# Altium schematic symbol library GreenBox_SheetLib.SchLib: 28 symbols
Pins are listed as number, name and electrical type; pins without a type are passive.

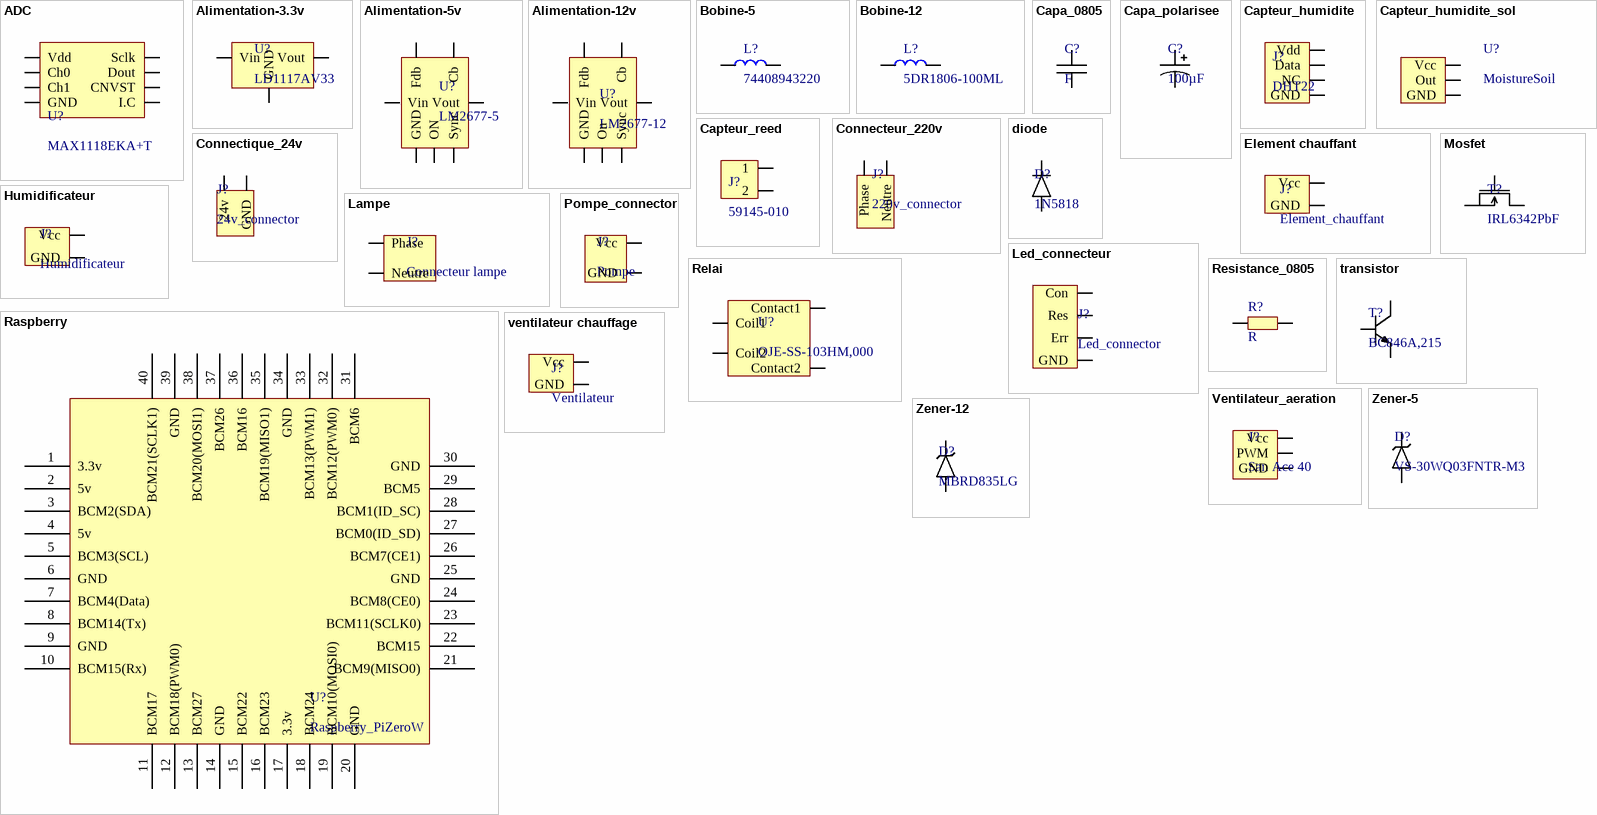
[diagram p0: symbols ADC to Zener-12]

## ADC
designator U?, comment MAX1118EKA+T
footprint SOT-23 (ADC)
pins: 1 Vdd, 2 Ch0, 3 Ch1, 4 GND, 5 I.C, 6 CNVST, 7 Dout, 8 Sclk

## Alimentation-3.3v
designator U?, comment LD1117AV33
footprint TO-220 + Dissipateur (3.3v)
pins: 1 Vin, 2 GND, 3 Vout

## Alimentation-5v
designator U?, comment LM2677-5
footprint TO-263 (Regulateur-5.5v)
pins: 1 Vout, 2 Vin, 3 Cb, 4 GND, 5 Sync, 6 Fdb, 7 ON

## Alimentation-12v
designator U?, comment LM2677-12
footprint TO-220-7 + dissipateur (Alimentation 12v + dissipateur)
pins: 1 Vout, 2 Vin, 3 Cb, 4 GND, 5 Sync, 6 Fdb, 7 On

## Bobine-5
designator L?, comment 74408943220
footprint 74408943220 (Bobine 22µH)
pins: 1, 2 1

## Bobine-12
designator L?, comment 5DR1806-100ML
footprint SDR1806-100ML (Bobine 12v)
pins: 1, 2 1

## Capa_0805
designator C?, comment F
footprint 0805
pins: 1, 2

## Capa_polarisee
designator C?, comment 100µF
footprint Capa_polarisee
pins: 1, 2

## Capteur_humidite
designator J?, comment DHT22
footprint Petit_bornier_4_voies
pins: 1 Vdd, 2 Data, 3 NC, 4 GND

## Capteur_humidite_sol
designator U?, comment MoistureSoil
Connecteur Capteur d'humidité du sol
footprint Petit_bornier_3_voies
pins: 1 Vcc, 2 Out, 3 GND

## Capteur_reed
designator J?, comment 59145-010
footprint Petit_bornier_2_voies
pins: 1, 2

## Connecteur_220v
designator J?, comment 220v_connector
footprint Gros Bornier 2 voies
pins: 1 Neutre, 2 Phase

## Connectique_24v
designator J?, comment 24v_connector
footprint Gros Bornier 2 voies
pins: 1 GND, 2 24v

## diode
designator D?, comment 1N5818
footprint DO-41 (Diode)
pins: 1 0, 2

## Element chauffant
designator J?, comment Element_chauffant
footprint Gros Bornier 2 voies
pins: 1 GND, 2 Vcc

## Humidificateur
designator J?
footprint Gros Bornier 2 voies
pins: 1 GND, 2 Vcc

## Lampe
designator J?, comment Connecteur lampe
footprint Gros Bornier 2 voies
pins: 1 Neutre, 2 Phase

## Led_connecteur
designator J?, comment Led_connector
footprint Petit_bornier_4_voies
pins: 1 Con, 2 Res, 3 Err, 4 GND

## Mosfet
designator T?, comment IRL6342PbF
footprint SO-8 (Mosfet)
pins: 1, 4 0, 5 2

## Pompe_connector
designator J?, comment Pompe
footprint Gros Bornier 2 voies
pins: 1 GND, 2 Vcc

## Raspberry
designator U?, comment Raspberry_PiZeroW
footprint Raspberry
pins: 1 3.3v, 2 5v, 3 BCM2(SDA), 4 5v, 5 BCM3(SCL), 6 GND, 7 BCM4(Data), 8 BCM14(Tx), 9 GND, 10 BCM15(Rx), 11 BCM17, 12 BCM18(PWM0), 13 BCM27, 14 GND, 15 BCM22, 16 BCM23, 17 3.3v, 18 BCM24, 19 BCM10(MOSI0), 20 GND, 21 BCM9(MISO0), 22 BCM15, 23 BCM11(SCLK0), 24 BCM8(CE0), 25 GND, 26 BCM7(CE1), 27 BCM0(ID_SD), 28 BCM1(ID_SC), 29 BCM5, 30 GND, 31 BCM6, 32 BCM12(PWM0), 33 BCM13(PWM1), 34 GND, 35 BCM19(MISO1), 36 BCM16, 37 BCM26, 38 BCM20(MOSI1), 39 GND, 40 BCM21(SCLK1)

## Relai
designator U?, comment OJE-SS-103HM,000
footprint Relai
pins: 1 Coil1, 2 Contact2, 3 Contact1, 4 Coil2

## Resistance_0805
designator R?, comment R
footprint 0805
pins: 1 0, 2 1

## transistor
designator T?, comment BC846A,215
footprint SOT-23 - duplicate
pins: 1 10, 2, 3 9

## ventilateur chauffage
designator J?, comment Ventilateur
footprint Petit_bornier_2_voies
pins: 1 Vcc, 2 GND

## Ventilateur_aeration
designator J?, comment San Ace 40
footprint Petit_bornier_3_voies
pins: 1 Vcc, 2 PWM, 3 GND

## Zener-5
designator D?, comment VS-30WQ03FNTR-M3
footprint Zener5
pins: 1 0, 2

## Zener-12
designator D?, comment MBRD835LG
footprint Zener12
pins: 1 0, 2